# EAGLE library part WU-43-P-GGGG (library Traficon)
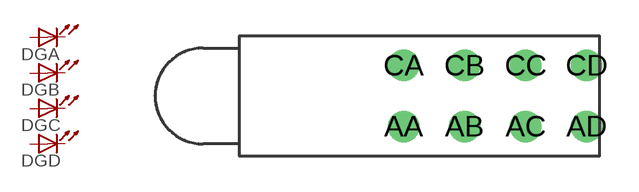
[diagram p150: symbol with the pads of WU-43-P-XXXX; footprint WU-43-P-XXXX]

Designator prefix DG; gates A=LED-2 B=LED-2 C=LED-2 D=LED-2

## WU-43-P-GGGG  [WU-43-P-XXXX]
AA  A:A  pas
AB  B:A  pas
AC  C:A  pas
AD  D:A  pas
CA  A:C  pas
CB  B:C  pas
CC  C:C  pas
CD  D:C  pas

## Footprint WU-43-P-XXXX (pad centres in mm)
drill 0.8 round: AA -0.66,-1.27; AB 1.88,-1.27; AC 4.42,-1.27; AD 6.96,-1.27; CA -0.66,1.27; CB 1.88,1.27; CC 4.42,1.27; CD 6.96,1.27